# EAGLE library part LED10 (library LEDs)
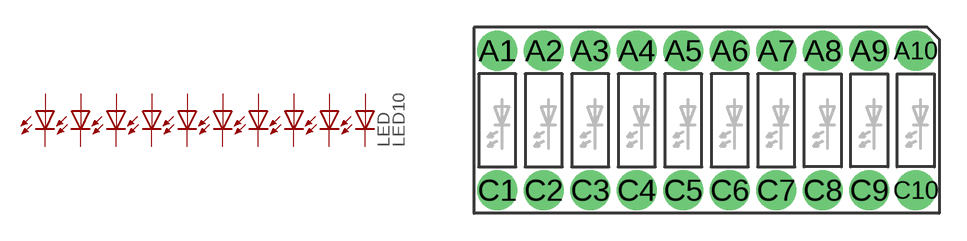
[diagram p0: symbol with the pads of LED10; footprint LED10]

Designator prefix LED

## LED10  [LED10]
A1  A1  pas
A2  A2  pas
A3  A3  pas
A4  A4  pas
A5  A5  pas
A6  A6  pas
A7  A7  pas
A8  A8  pas
A9  A9  pas
A10  A10  pas
C1  C1  pas
C2  C2  pas
C3  C3  pas
C4  C4  pas
C5  C5  pas
C6  C6  pas
C7  C7  pas
C8  C8  pas
C9  C9  pas
C10  C10  pas

## Footprint LED10 (pad centres in mm)
drill 1 pad 2.184: A1 -11.43,3.81; A2 -8.89,3.81; A3 -6.35,3.81; A4 -3.81,3.81; A5 -1.27,3.81; A6 1.27,3.81; A7 3.81,3.81; A8 6.35,3.81; A9 8.89,3.81; A10 11.43,3.81; C1 -11.43,-3.81; C2 -8.89,-3.81; C3 -6.35,-3.81; C4 -3.81,-3.81; C5 -1.27,-3.81; C6 1.27,-3.81; C7 3.81,-3.81; C8 6.35,-3.81; C9 8.89,-3.81; C10 11.43,-3.81